# EAGLE library part MICRO-FIT_3.0_6POS_ (library Schuyler)
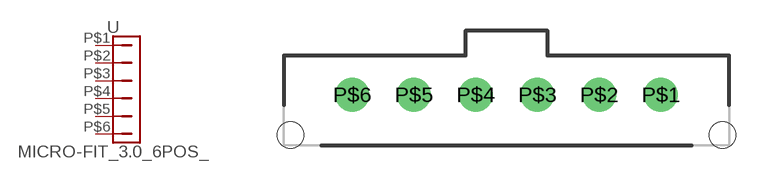
[diagram p0: symbol with the pads of MICRO-FIT_3.0_6POS_VERT_THROUGH; footprint MICRO-FIT_3.0_6POS_VERT_THROUGH]

Designator prefix -

## MICRO-FIT_3.0_6POS_VERT_THRU (MANPARTNUMBER: 0436500615; MANUFACTURER: Molex Inc; PARTNUMBER: WM1921-ND; SUPPLIER: DIGIKEY; VERIFIED: TRUE)  [MICRO-FIT_3.0_6POS_VERT_THROUGH]
P$1  P$1  pas
P$2  P$2  pas
P$3  P$3  pas
P$4  P$4  pas
P$5  P$5  pas
P$6  P$6  pas

## Footprint MICRO-FIT_3.0_6POS_VERT_THROUGH (pad centres in mm)
Footprint for Micro-Fit 3.0 6 position vertical connector. VERIFIED=false.
drill 1.1: P$1 7.5,0; P$2 4.5,0; P$3 1.5,0; P$4 -1.5,0; P$5 -4.5,0; P$6 -7.5,0
hole 1.27 at 10.5,-1.96
hole 1.27 at -10.5,-1.96